# Altium integrated library Analog Devices RF IF Integrated Transceivers, Transmitters and Receivers.IntLib: 9 symbols
Pins are listed as number, name and electrical type; pins without a type are passive.

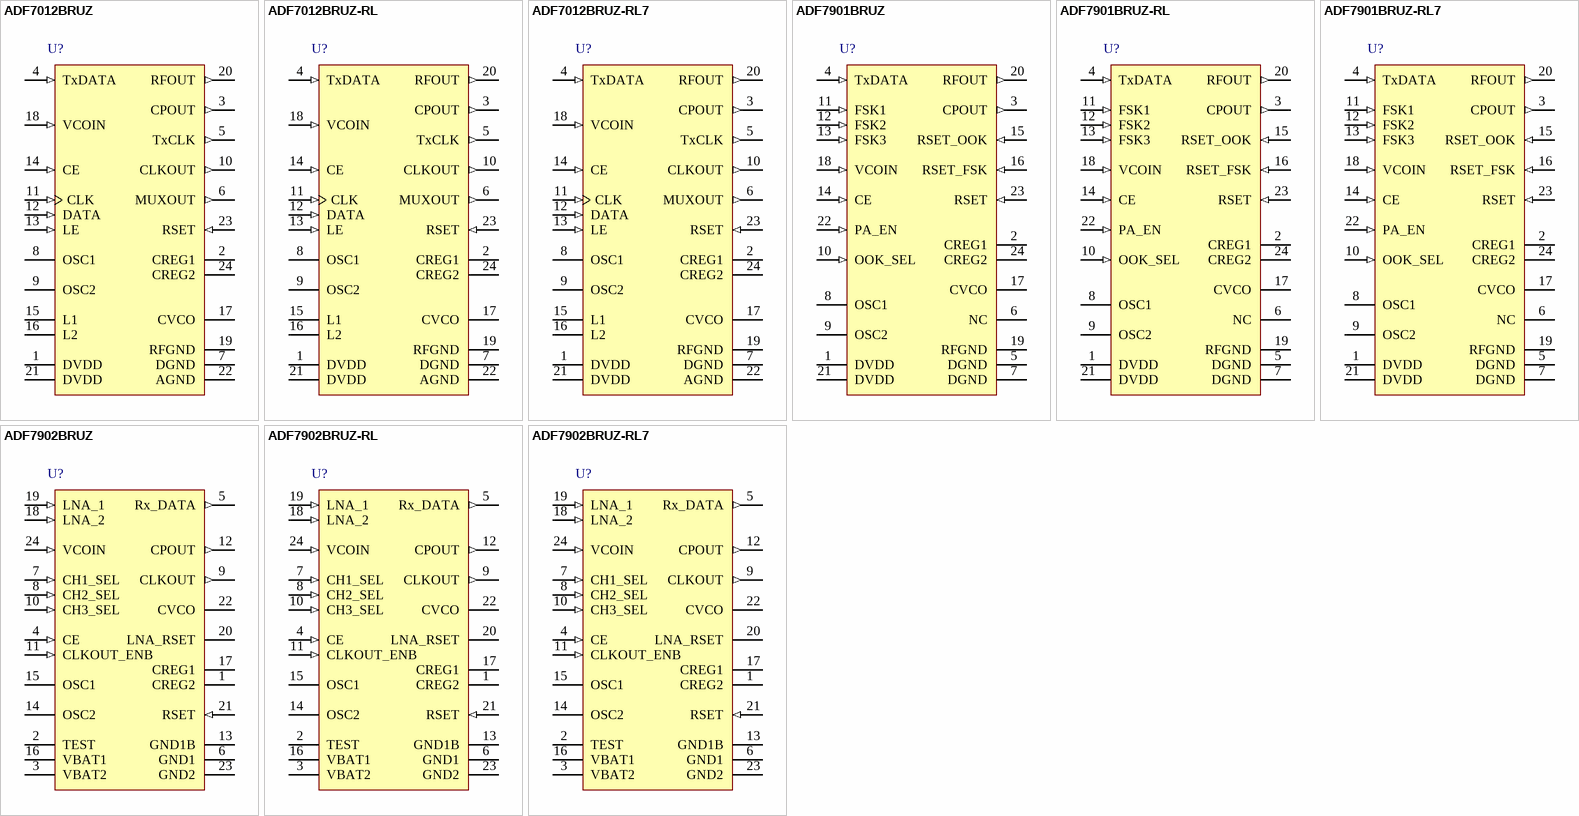
[diagram p0: symbols ADF7012BRUZ to ADF7902BRUZ-RL7]

## ADF7012BRUZ
designator U?
Multichannel ISM Band FSK/GFSK/OOK/GOOK/ASK Transmitter, 75-1000 MHz Output Frequency, 179.2Kbps Maximum Data Rate, RU-24, Pb-Free, 62 Tube; Modulation Mode: FSK/ASK/GFSK, GOOK, OOK; Voltage Supply (V): 3.6V; Output Power: 14 dBm; Phase Noise Floor (dBc/Hz: 194dBc/Hz; Tx Current for 0 dBm (mA): 16mA; DatasheetVersion: RevA; PackageVersion: 2002; PackageReference: RU-24; PackageDescription: 24-Lead Thin Shrink Small Outline Package [TSSOP]; Output Frequency Range: 75-1000 MHz; Maximum Data Rate (kbps): 179.2Kbps; Code_JEDEC: MO-153AD; ComponentLink1Description: Manufacturer URL; ComponentLink1URL: www.analog.com; ComponentLink2Description: Datasheet; ComponentLink2URL: http://www.analog.com/static/imported-files/data_sheets/ADF7012.pdf; ComponentLink3Description: Package Specification; ComponentLink3URL: http://www.analog.com/static/imported-files/packages/380523655245964505593671154107510036154RU24.pdf
footprint ADI-RU-24_N (TSOP, 24-Leads, Body 7.8x4.4mm, Pitch 0.65mm, IPC Medium Density)
footprint ADI-RU-24_L (TSOP, 24-Leads, Body 7.8x4.4mm, Pitch 0.65mm, IPC High Density)
footprint ADI-RU-24_M (TSOP, 24-Leads, Body 7.8x4.4mm, Pitch 0.65mm, IPC Low Density)
pins: 1 DVDD (power) "Positive Supply for the Digital Circuitry. This must be between 2.3 V and 3.6 V. Decoupling capacitors to the analog ground plane should be placed as close as possible to this pin.", 2 CREG1 "A 1 uF capacitor should be added at CREG to reduce regulator noise and improve stability. A reduced capacitor improves regulator power-on time, but may cause higher spurious noise.", 3 CPOUT (out) "Charge Pump Output. This output generates current pulses that are integrated in the loop filter. The integrated current changes the control voltage on the input to the VCO.", 4 TxDATA (in) "Digital data to be transmitted is input on this pin.", 5 TxCLK (out) "GFSK and GOOK Only. This clock output is used to synchronize microcontroller data to the TxDATA pin of the ADF7012. The clock is provided at the same frequency as the data rate. [see datasheet]", 6 MUXOUT (out) "Provides the Lock_Detect Signal. This signal is used to determine if the PLL is locked to the correct frequency. [see datasheet]", 7 DGND (power) "Ground for Digital Section.", 8 OSC1 "The reference crystal should be connected between this pin and OSC2.", 9 OSC2 "The reference crystal should be connected between this pin and OSC1. A TCXO reference may be used, by driving this pin with CMOS levels, and powering down the crystal oscillator bit in software.", 10 CLKOUT (out) "A divided-down version of the crystal reference with output driver. The digital clock output may be used to drive several other CMOS inputs, such as a microcontroller clock. [see datasheet]", 11 CLK (in) "Serial Clock Input. This serial clock is used to clock in the serial data to the registers. The data is latched into the 32-bit shift register on the CLK rising edge. [see datasheet]", 12 DATA (in) "Serial Data Input. The serial data is loaded MSB first with the two LSBs being the control bits. This is a high impedance CMOS input.", 13 LE (in) "Load Enable, CMOS Input. When LE goes high, the data stored in the shift registers is loaded into one of the four latches, the latch being selected using the control bits.", 14 CE (in) "Chip Enable. Bringing CE low puts the ADF7012 into complete power-down, drawing < 1uA. Register values are lost when CE is low and the part must be reprogrammed once CE is brought high.", 15 L1 "Connected to external printed or discrete inductor. See Choosing the External Inductor Value for advice on the value of the inductor to be connected between L1 and L2.", 16 L2 "Connected to external printed or discrete inductor.", 17 CVCO "A 22 nF capacitor should be tied between the CVCO and CREG2 pins. This line should run underneath the ADF7012. This capacitor is necessary to ensure stable VCO operation.", 18 VCOIN (in) "The tuning voltage on this pin determines the output frequency of the voltage controlled oscillator (VCO). The higher the tuning voltage, the higher the output frequency.", 19 RFGND (power) "Ground for Output Stage of Transmitter.", 20 RFOUT (out) "The modulated signal is available at this pin. Output power levels are from -16 dBm to +12 dBm. The output should be impedance matched using suitable components to the desired load. [see datasheet]", 21 DVDD (power) "Voltage supply for VCO and PA section. This should have the same supply as DVDD (Pin 1), and should be between 2.3 V and 3.6 V. [see datasheet]", 22 AGND (power) "Ground Pin for the RF Analog Circuitry.", 23 RSET (in) "External Resistor to set charge pump current and some internal bias currents. Use 3.6 k ohm as default.", 24 CREG2 "Add a 470 nF capacitor at CREG to reduce regulator noise and improve stability. A reduced capacitor improves regulator power-on time and phase noise, but may have stability issues over the supply and temperature."

## ADF7012BRUZ-RL
designator U?
Multichannel ISM Band FSK/GFSK/OOK/GOOK/ASK Transmitter, 75-1000 MHz Output Frequency, 179.2Kbps Maximum Data Rate, RU-24, Pb-Free, 2500 Reel; Modulation Mode: FSK/ASK/GFSK, GOOK, OOK; Voltage Supply (V): 3.6V; Output Power: 14 dBm; Phase Noise Floor (dBc/Hz: 194dBc/Hz; Tx Current for 0 dBm (mA): 16mA; DatasheetVersion: RevA; PackageVersion: 2002; PackageReference: RU-24; PackageDescription: 24-Lead Thin Shrink Small Outline Package [TSSOP]; Output Frequency Range: 75-1000 MHz; Maximum Data Rate (kbps): 179.2Kbps; Code_JEDEC: MO-153AD; ComponentLink1Description: Manufacturer URL; ComponentLink1URL: www.analog.com; ComponentLink2Description: Datasheet; ComponentLink2URL: http://www.analog.com/static/imported-files/data_sheets/ADF7012.pdf; ComponentLink3Description: Package Specification; ComponentLink3URL: http://www.analog.com/static/imported-files/packages/380523655245964505593671154107510036154RU24.pdf
footprint ADI-RU-24_N (TSOP, 24-Leads, Body 7.8x4.4mm, Pitch 0.65mm, IPC Medium Density)
footprint ADI-RU-24_L (TSOP, 24-Leads, Body 7.8x4.4mm, Pitch 0.65mm, IPC High Density)
footprint ADI-RU-24_M (TSOP, 24-Leads, Body 7.8x4.4mm, Pitch 0.65mm, IPC Low Density)
pins: 1 DVDD (power) "Positive Supply for the Digital Circuitry. This must be between 2.3 V and 3.6 V. Decoupling capacitors to the analog ground plane should be placed as close as possible to this pin.", 2 CREG1 "A 1 uF capacitor should be added at CREG to reduce regulator noise and improve stability. A reduced capacitor improves regulator power-on time, but may cause higher spurious noise.", 3 CPOUT (out) "Charge Pump Output. This output generates current pulses that are integrated in the loop filter. The integrated current changes the control voltage on the input to the VCO.", 4 TxDATA (in) "Digital data to be transmitted is input on this pin.", 5 TxCLK (out) "GFSK and GOOK Only. This clock output is used to synchronize microcontroller data to the TxDATA pin of the ADF7012. The clock is provided at the same frequency as the data rate. [see datasheet]", 6 MUXOUT (out) "Provides the Lock_Detect Signal. This signal is used to determine if the PLL is locked to the correct frequency. [see datasheet]", 7 DGND (power) "Ground for Digital Section.", 8 OSC1 "The reference crystal should be connected between this pin and OSC2.", 9 OSC2 "The reference crystal should be connected between this pin and OSC1. A TCXO reference may be used, by driving this pin with CMOS levels, and powering down the crystal oscillator bit in software.", 10 CLKOUT (out) "A divided-down version of the crystal reference with output driver. The digital clock output may be used to drive several other CMOS inputs, such as a microcontroller clock. [see datasheet]", 11 CLK (in) "Serial Clock Input. This serial clock is used to clock in the serial data to the registers. The data is latched into the 32-bit shift register on the CLK rising edge. [see datasheet]", 12 DATA (in) "Serial Data Input. The serial data is loaded MSB first with the two LSBs being the control bits. This is a high impedance CMOS input.", 13 LE (in) "Load Enable, CMOS Input. When LE goes high, the data stored in the shift registers is loaded into one of the four latches, the latch being selected using the control bits.", 14 CE (in) "Chip Enable. Bringing CE low puts the ADF7012 into complete power-down, drawing < 1uA. Register values are lost when CE is low and the part must be reprogrammed once CE is brought high.", 15 L1 "Connected to external printed or discrete inductor. See Choosing the External Inductor Value for advice on the value of the inductor to be connected between L1 and L2.", 16 L2 "Connected to external printed or discrete inductor.", 17 CVCO "A 22 nF capacitor should be tied between the CVCO and CREG2 pins. This line should run underneath the ADF7012. This capacitor is necessary to ensure stable VCO operation.", 18 VCOIN (in) "The tuning voltage on this pin determines the output frequency of the voltage controlled oscillator (VCO). The higher the tuning voltage, the higher the output frequency.", 19 RFGND (power) "Ground for Output Stage of Transmitter.", 20 RFOUT (out) "The modulated signal is available at this pin. Output power levels are from -16 dBm to +12 dBm. The output should be impedance matched using suitable components to the desired load. [see datasheet]", 21 DVDD (power) "Voltage supply for VCO and PA section. This should have the same supply as DVDD (Pin 1), and should be between 2.3 V and 3.6 V. [see datasheet]", 22 AGND (power) "Ground Pin for the RF Analog Circuitry.", 23 RSET (in) "External Resistor to set charge pump current and some internal bias currents. Use 3.6 k ohm as default.", 24 CREG2 "Add a 470 nF capacitor at CREG to reduce regulator noise and improve stability. A reduced capacitor improves regulator power-on time and phase noise, but may have stability issues over the supply and temperature."

## ADF7012BRUZ-RL7
designator U?
Multichannel ISM Band FSK/GFSK/OOK/GOOK/ASK Transmitter, 75-1000 MHz Output Frequency, 179.2Kbps Maximum Data Rate, RU-24, Pb-Free, 1000 Reel; Modulation Mode: FSK/ASK/GFSK, GOOK, OOK; Voltage Supply (V): 3.6V; Output Power: 14 dBm; Phase Noise Floor (dBc/Hz: 194dBc/Hz; Tx Current for 0 dBm (mA): 16mA; DatasheetVersion: RevA; PackageVersion: 2002; PackageReference: RU-24; PackageDescription: 24-Lead Thin Shrink Small Outline Package [TSSOP]; Output Frequency Range: 75-1000 MHz; Maximum Data Rate (kbps): 179.2Kbps; Code_JEDEC: MO-153AD; ComponentLink1Description: Manufacturer URL; ComponentLink1URL: www.analog.com; ComponentLink2Description: Datasheet; ComponentLink2URL: http://www.analog.com/static/imported-files/data_sheets/ADF7012.pdf; ComponentLink3Description: Package Specification; ComponentLink3URL: http://www.analog.com/static/imported-files/packages/380523655245964505593671154107510036154RU24.pdf
footprint ADI-RU-24_N (TSOP, 24-Leads, Body 7.8x4.4mm, Pitch 0.65mm, IPC Medium Density)
footprint ADI-RU-24_L (TSOP, 24-Leads, Body 7.8x4.4mm, Pitch 0.65mm, IPC High Density)
footprint ADI-RU-24_M (TSOP, 24-Leads, Body 7.8x4.4mm, Pitch 0.65mm, IPC Low Density)
pins: 1 DVDD (power) "Positive Supply for the Digital Circuitry. This must be between 2.3 V and 3.6 V. Decoupling capacitors to the analog ground plane should be placed as close as possible to this pin.", 2 CREG1 "A 1 uF capacitor should be added at CREG to reduce regulator noise and improve stability. A reduced capacitor improves regulator power-on time, but may cause higher spurious noise.", 3 CPOUT (out) "Charge Pump Output. This output generates current pulses that are integrated in the loop filter. The integrated current changes the control voltage on the input to the VCO.", 4 TxDATA (in) "Digital data to be transmitted is input on this pin.", 5 TxCLK (out) "GFSK and GOOK Only. This clock output is used to synchronize microcontroller data to the TxDATA pin of the ADF7012. The clock is provided at the same frequency as the data rate. [see datasheet]", 6 MUXOUT (out) "Provides the Lock_Detect Signal. This signal is used to determine if the PLL is locked to the correct frequency. [see datasheet]", 7 DGND (power) "Ground for Digital Section.", 8 OSC1 "The reference crystal should be connected between this pin and OSC2.", 9 OSC2 "The reference crystal should be connected between this pin and OSC1. A TCXO reference may be used, by driving this pin with CMOS levels, and powering down the crystal oscillator bit in software.", 10 CLKOUT (out) "A divided-down version of the crystal reference with output driver. The digital clock output may be used to drive several other CMOS inputs, such as a microcontroller clock. [see datasheet]", 11 CLK (in) "Serial Clock Input. This serial clock is used to clock in the serial data to the registers. The data is latched into the 32-bit shift register on the CLK rising edge. [see datasheet]", 12 DATA (in) "Serial Data Input. The serial data is loaded MSB first with the two LSBs being the control bits. This is a high impedance CMOS input.", 13 LE (in) "Load Enable, CMOS Input. When LE goes high, the data stored in the shift registers is loaded into one of the four latches, the latch being selected using the control bits.", 14 CE (in) "Chip Enable. Bringing CE low puts the ADF7012 into complete power-down, drawing < 1uA. Register values are lost when CE is low and the part must be reprogrammed once CE is brought high.", 15 L1 "Connected to external printed or discrete inductor. See Choosing the External Inductor Value for advice on the value of the inductor to be connected between L1 and L2.", 16 L2 "Connected to external printed or discrete inductor.", 17 CVCO "A 22 nF capacitor should be tied between the CVCO and CREG2 pins. This line should run underneath the ADF7012. This capacitor is necessary to ensure stable VCO operation.", 18 VCOIN (in) "The tuning voltage on this pin determines the output frequency of the voltage controlled oscillator (VCO). The higher the tuning voltage, the higher the output frequency.", 19 RFGND (power) "Ground for Output Stage of Transmitter.", 20 RFOUT (out) "The modulated signal is available at this pin. Output power levels are from -16 dBm to +12 dBm. The output should be impedance matched using suitable components to the desired load. [see datasheet]", 21 DVDD (power) "Voltage supply for VCO and PA section. This should have the same supply as DVDD (Pin 1), and should be between 2.3 V and 3.6 V. [see datasheet]", 22 AGND (power) "Ground Pin for the RF Analog Circuitry.", 23 RSET (in) "External Resistor to set charge pump current and some internal bias currents. Use 3.6 k ohm as default.", 24 CREG2 "Add a 470 nF capacitor at CREG to reduce regulator noise and improve stability. A reduced capacitor improves regulator power-on time and phase noise, but may have stability issues over the supply and temperature."

## ADF7901BRUZ
designator U?
High Performance ISM Band OOK/FSK Transmitter IC, 369.5MHz-395.9MHz Output Frequency, 50Kbps Maximum Data Rate, RU-24, Pb-Free, 62 Tube; Modulation Mode: FSK, OOK; Voltage Supply (V): 3V; Output Power: 14 dBm; Phase Noise Floor (dBc/Hz: 194dBc/Hz; Tx Current for 0 dBm (mA): 17mA; DatasheetVersion: RevA; PackageVersion: 2002; PackageReference: RU-24; PackageDescription: 24-Lead Thin Shrink Small Outline Package [TSSOP]; Output Frequency Range: 369.5MHz-395.9MHz; Maximum Data Rate (kbps): 50Kbps; Code_JEDEC: MO-153AD; ComponentLink1Description: Manufacturer URL; ComponentLink1URL: www.analog.com; ComponentLink2Description: Datasheet; ComponentLink2URL: http://www.analog.com/static/imported-files/data_sheets/ADF7901.pdf; ComponentLink3Description: Package Specification; ComponentLink3URL: http://www.analog.com/static/imported-files/packages/380523655245964505593671154107510036154RU24.pdf
footprint ADI-RU-24_N (TSOP, 24-Leads, Body 7.8x4.4mm, Pitch 0.65mm, IPC Medium Density)
footprint ADI-RU-24_L (TSOP, 24-Leads, Body 7.8x4.4mm, Pitch 0.65mm, IPC High Density)
footprint ADI-RU-24_M (TSOP, 24-Leads, Body 7.8x4.4mm, Pitch 0.65mm, IPC Low Density)
pins: 1 DVDD (power) "Positive Supply for the Digital Circuitry. This must be 3.0 V. Decoupling capacitors to the analog ground plane should be placed as close as possible to this pin.", 2 CREG1 "A 2.2 uF capacitor should be added at CREG1 to reduce regulator noise and improve stability. A reduced capacitor improves regulator power-on time but can cause higher spurious.", 3 CPOUT (out) "Charge Pump Output. This output generates current pulses that are integrated in the loop filter. The integrated current changes the control voltage on the input to the VCO.", 4 TxDATA (in) "Digital FSK data to be transmitted is inputted on this pin.", 5 DGND (power) "Ground for Digital Section.", 6 NC "No Connect.", 7 DGND (power) "Ground for Digital Section.", 8 OSC1 "Digital FSK data to be transmitted is inputted on this pin. Ground for Digital Section. No Connect. Ground for Digital Section.", 9 OSC2 "The reference crystal should be connected between this pin and the OSC1 pin. The necessary crystal load capacitor should be tied between this pin and ground. [see datasheet]", 10 OOK_SEL (in) "A high on this pin selects operation in OOK mode at 384 MHz when CE is high.", 11 FSK1 (in) "FSK Channel Select Pin. This represents the LSB of the channel select pins.", 12 FSK2 (in) "FSK Channel Select Pin.", 13 FSK3 (in) "FSK Channel Select Pin.", 14 CE (in) "Bringing CE low puts the ADF7901 into power-down, drawing <1 uA of current.", 15 RSET_OOK (in) "The value of this resistor sets the output power for data = 1 in OOK mode. A resistor of 3.6 k ohm provides the maximum output power. [see datasheet]", 16 RSET_FSK (in) "The value of this resistor sets the output power in FSK mode. A resistor of 3.6 k ohm provides maximum output power. Increasing the resistor reduces the power and the current consumption. [see datasheet]", 17 CVCO "A 22 nF capacitor should be tied between the CVCO and CREG2 pins. This line should run underneath the ADF7901. The capacitor is necessary to ensure stable VCO operation.", 18 VCOIN (in) "The tuning voltage on this pin determines the output frequency of the voltage controlled oscillator (VCO). The higher the tuning voltage the higher the output frequency. [see datasheet]", 19 RFGND (power) "Ground for Output Stage of Transmitter.", 20 RFOUT (out) "The modulated signal is available at this pin. Output power levels are from -5 dBm to +12 dBm. The output should be impedance matched using suitable components to the desired load.", 21 DVDD (power) "Voltage Supply for VCO and PA Section. It should be supplied with 3.0 V. Decoupling capacitors to the ground plane should be placed as close as possible to this pin.", 22 PA_EN (in) "This pin is used to enable the power amplifier. It should be modulated with the OOK data in OOK mode. In FSK mode, it should be enabled when the PLL is locked.", 23 RSET (in) "External Resistor. Sets charge pump current and some internal bias currents. Use 3.6 k ohm as default.", 24 CREG2 "A 2.2 uF capacitor should be added at CREG2 to reduce regulator noise and improve stability. A reduced capacitor improves regulator power-on time but can cause higher spurs."

## ADF7901BRUZ-RL
designator U?
High Performance ISM Band OOK/FSK Transmitter IC, 369.5MHz-395.9MHz Output Frequency, 50Kbps Maximum Data Rate, RU-24, Pb-Free, 2500 Reel; Modulation Mode: FSK, OOK; Voltage Supply (V): 3V; Output Power: 14 dBm; Phase Noise Floor (dBc/Hz: 194dBc/Hz; Tx Current for 0 dBm (mA): 17mA; DatasheetVersion: RevA; PackageVersion: 2002; PackageReference: RU-24; PackageDescription: 24-Lead Thin Shrink Small Outline Package [TSSOP]; Output Frequency Range: 369.5MHz-395.9MHz; Maximum Data Rate (kbps): 50Kbps; Code_JEDEC: MO-153AD; ComponentLink1Description: Manufacturer URL; ComponentLink1URL: www.analog.com; ComponentLink2Description: Datasheet; ComponentLink2URL: http://www.analog.com/static/imported-files/data_sheets/ADF7901.pdf; ComponentLink3Description: Package Specification; ComponentLink3URL: http://www.analog.com/static/imported-files/packages/380523655245964505593671154107510036154RU24.pdf
footprint ADI-RU-24_N (TSOP, 24-Leads, Body 7.8x4.4mm, Pitch 0.65mm, IPC Medium Density)
footprint ADI-RU-24_L (TSOP, 24-Leads, Body 7.8x4.4mm, Pitch 0.65mm, IPC High Density)
footprint ADI-RU-24_M (TSOP, 24-Leads, Body 7.8x4.4mm, Pitch 0.65mm, IPC Low Density)
pins: 1 DVDD (power) "Positive Supply for the Digital Circuitry. This must be 3.0 V. Decoupling capacitors to the analog ground plane should be placed as close as possible to this pin.", 2 CREG1 "A 2.2 uF capacitor should be added at CREG1 to reduce regulator noise and improve stability. A reduced capacitor improves regulator power-on time but can cause higher spurious.", 3 CPOUT (out) "Charge Pump Output. This output generates current pulses that are integrated in the loop filter. The integrated current changes the control voltage on the input to the VCO.", 4 TxDATA (in) "Digital FSK data to be transmitted is inputted on this pin.", 5 DGND (power) "Ground for Digital Section.", 6 NC "No Connect.", 7 DGND (power) "Ground for Digital Section.", 8 OSC1 "Digital FSK data to be transmitted is inputted on this pin. Ground for Digital Section. No Connect. Ground for Digital Section.", 9 OSC2 "The reference crystal should be connected between this pin and the OSC1 pin. The necessary crystal load capacitor should be tied between this pin and ground. [see datasheet]", 10 OOK_SEL (in) "A high on this pin selects operation in OOK mode at 384 MHz when CE is high.", 11 FSK1 (in) "FSK Channel Select Pin. This represents the LSB of the channel select pins.", 12 FSK2 (in) "FSK Channel Select Pin.", 13 FSK3 (in) "FSK Channel Select Pin.", 14 CE (in) "Bringing CE low puts the ADF7901 into power-down, drawing <1 uA of current.", 15 RSET_OOK (in) "The value of this resistor sets the output power for data = 1 in OOK mode. A resistor of 3.6 k ohm provides the maximum output power. [see datasheet]", 16 RSET_FSK (in) "The value of this resistor sets the output power in FSK mode. A resistor of 3.6 k ohm provides maximum output power. Increasing the resistor reduces the power and the current consumption. [see datasheet]", 17 CVCO "A 22 nF capacitor should be tied between the CVCO and CREG2 pins. This line should run underneath the ADF7901. The capacitor is necessary to ensure stable VCO operation.", 18 VCOIN (in) "The tuning voltage on this pin determines the output frequency of the voltage controlled oscillator (VCO). The higher the tuning voltage the higher the output frequency. [see datasheet]", 19 RFGND (power) "Ground for Output Stage of Transmitter.", 20 RFOUT (out) "The modulated signal is available at this pin. Output power levels are from -5 dBm to +12 dBm. The output should be impedance matched using suitable components to the desired load.", 21 DVDD (power) "Voltage Supply for VCO and PA Section. It should be supplied with 3.0 V. Decoupling capacitors to the ground plane should be placed as close as possible to this pin.", 22 PA_EN (in) "This pin is used to enable the power amplifier. It should be modulated with the OOK data in OOK mode. In FSK mode, it should be enabled when the PLL is locked.", 23 RSET (in) "External Resistor. Sets charge pump current and some internal bias currents. Use 3.6 k ohm as default.", 24 CREG2 "A 2.2 uF capacitor should be added at CREG2 to reduce regulator noise and improve stability. A reduced capacitor improves regulator power-on time but can cause higher spurs."

## ADF7901BRUZ-RL7
designator U?
High Performance ISM Band OOK/FSK Transmitter IC, 369.5MHz-395.9MHz Output Frequency, 50Kbps Maximum Data Rate, RU-24, Pb-Free, 1000 Reel; Modulation Mode: FSK, OOK; Voltage Supply (V): 3V; Output Power: 14 dBm; Phase Noise Floor (dBc/Hz: 194dBc/Hz; Tx Current for 0 dBm (mA): 17mA; DatasheetVersion: RevA; PackageVersion: 2002; PackageReference: RU-24; PackageDescription: 24-Lead Thin Shrink Small Outline Package [TSSOP]; Output Frequency Range: 369.5MHz-395.9MHz; Maximum Data Rate (kbps): 50Kbps; Code_JEDEC: MO-153AD; ComponentLink1Description: Manufacturer URL; ComponentLink1URL: www.analog.com; ComponentLink2Description: Datasheet; ComponentLink2URL: http://www.analog.com/static/imported-files/data_sheets/ADF7901.pdf; ComponentLink3Description: Package Specification; ComponentLink3URL: http://www.analog.com/static/imported-files/packages/380523655245964505593671154107510036154RU24.pdf
footprint ADI-RU-24_N (TSOP, 24-Leads, Body 7.8x4.4mm, Pitch 0.65mm, IPC Medium Density)
footprint ADI-RU-24_L (TSOP, 24-Leads, Body 7.8x4.4mm, Pitch 0.65mm, IPC High Density)
footprint ADI-RU-24_M (TSOP, 24-Leads, Body 7.8x4.4mm, Pitch 0.65mm, IPC Low Density)
pins: 1 DVDD (power) "Positive Supply for the Digital Circuitry. This must be 3.0 V. Decoupling capacitors to the analog ground plane should be placed as close as possible to this pin.", 2 CREG1 "A 2.2 uF capacitor should be added at CREG1 to reduce regulator noise and improve stability. A reduced capacitor improves regulator power-on time but can cause higher spurious.", 3 CPOUT (out) "Charge Pump Output. This output generates current pulses that are integrated in the loop filter. The integrated current changes the control voltage on the input to the VCO.", 4 TxDATA (in) "Digital FSK data to be transmitted is inputted on this pin.", 5 DGND (power) "Ground for Digital Section.", 6 NC "No Connect.", 7 DGND (power) "Ground for Digital Section.", 8 OSC1 "Digital FSK data to be transmitted is inputted on this pin. Ground for Digital Section. No Connect. Ground for Digital Section.", 9 OSC2 "The reference crystal should be connected between this pin and the OSC1 pin. The necessary crystal load capacitor should be tied between this pin and ground. [see datasheet]", 10 OOK_SEL (in) "A high on this pin selects operation in OOK mode at 384 MHz when CE is high.", 11 FSK1 (in) "FSK Channel Select Pin. This represents the LSB of the channel select pins.", 12 FSK2 (in) "FSK Channel Select Pin.", 13 FSK3 (in) "FSK Channel Select Pin.", 14 CE (in) "Bringing CE low puts the ADF7901 into power-down, drawing <1 uA of current.", 15 RSET_OOK (in) "The value of this resistor sets the output power for data = 1 in OOK mode. A resistor of 3.6 k ohm provides the maximum output power. [see datasheet]", 16 RSET_FSK (in) "The value of this resistor sets the output power in FSK mode. A resistor of 3.6 k ohm provides maximum output power. Increasing the resistor reduces the power and the current consumption. [see datasheet]", 17 CVCO "A 22 nF capacitor should be tied between the CVCO and CREG2 pins. This line should run underneath the ADF7901. The capacitor is necessary to ensure stable VCO operation.", 18 VCOIN (in) "The tuning voltage on this pin determines the output frequency of the voltage controlled oscillator (VCO). The higher the tuning voltage the higher the output frequency. [see datasheet]", 19 RFGND (power) "Ground for Output Stage of Transmitter.", 20 RFOUT (out) "The modulated signal is available at this pin. Output power levels are from -5 dBm to +12 dBm. The output should be impedance matched using suitable components to the desired load.", 21 DVDD (power) "Voltage Supply for VCO and PA Section. It should be supplied with 3.0 V. Decoupling capacitors to the ground plane should be placed as close as possible to this pin.", 22 PA_EN (in) "This pin is used to enable the power amplifier. It should be modulated with the OOK data in OOK mode. In FSK mode, it should be enabled when the PLL is locked.", 23 RSET (in) "External Resistor. Sets charge pump current and some internal bias currents. Use 3.6 k ohm as default.", 24 CREG2 "A 2.2 uF capacitor should be added at CREG2 to reduce regulator noise and improve stability. A reduced capacitor improves regulator power-on time but can cause higher spurs."

## ADF7902BRUZ
designator U?
ISM Band FSK Receiver IC, 369.5MHz-395.9MHz Output Frequency, 2Kbps Maximum Data Rate, RU-24, Pb-Free, 62 Tube; Voltage Supply (V): 5V; Phase Noise Floor (dBc/Hz: 194dBc/Hz; Rx Current (mA): 18.5mA; DatasheetVersion: Rev0; PackageVersion: 2002; PackageReference: RU-24; PackageDescription: 24-Lead Thin Shrink Small Outline Package [TSSOP]; Output Frequency Range: 369.5MHz-395.9MHz; Modulation Mode: FSK; Maximum Data Rate (kbps): 2Kbps; Code_JEDEC: MO-153AD; ComponentLink1Description: Manufacturer URL; ComponentLink1URL: www.analog.com; ComponentLink2Description: Datasheet; ComponentLink2URL: http://www.analog.com/static/imported-files/data_sheets/ADF7902.pdf; ComponentLink3Description: Package Specification; ComponentLink3URL: http://www.analog.com/static/imported-files/packages/380523655245964505593671154107510036154RU24.pdf
footprint ADI-RU-24_N (TSOP, 24-Leads, Body 7.8x4.4mm, Pitch 0.65mm, IPC Medium Density)
footprint ADI-RU-24_L (TSOP, 24-Leads, Body 7.8x4.4mm, Pitch 0.65mm, IPC High Density)
footprint ADI-RU-24_M (TSOP, 24-Leads, Body 7.8x4.4mm, Pitch 0.65mm, IPC Low Density)
pins: 1 CREG2 "A 0.1 uF capacitor should be added at CREG2 to reduce regulator noise and improve stability. A reduced capacitor improves regulator power-on time but may cause higher spurs.", 2 TEST "Test Output Pin. Leave as no connect.", 3 VBAT2 (power) "5 V Power Supply for RF Circuitry. Decoupling capacitors to the analog ground plane should be placed as close as possible to this pin.", 4 CE (in) "Chip Enable Input. Driving CE low puts the part into power-down mode, drawing <1 uA.", 5 Rx_DATA (out) "Receiver Output. Demodulated data appears on this pin.", 6 GND1 (power) "Ground for Digital Circuitry.", 7 CH1_SEL (in) "Channel Select Pin. This represents the LSB of the channel select pins.", 8 CH2_SEL (in) "Channel Select Pin.", 9 CLKOUT (out) "Square Wave Clock Output at the Crystal Frequency. This can be used to drive the OSC2 pin of a partnering ADF7902. The output has a 50:50 mark-space ratio and switches between 0 V and 2.2 V. [see datasheet]", 10 CH3_SEL (in) "Channel Select Pin.", 11 CLKOUT_ENB (in) "CLKOUT Enable Input. This should be driven low to enable the reference clock signal to appear on the CLKOUT pin. Driving the pin high removes the clock signal on CLKOUT. [see datasheet]", 12 CPOUT (out) "Charge Pump Output. This output generates current pulses that are integrated in the loop filter. The integrated current changes the control voltage on the input to the VCO.", 13 GND1B (power) "Ground for Digital Circuitry.", 14 OSC2 "The reference crystal should be connected between this pin and OSC1. The necessary crystal load capacitor should be tied between this pin and ground. [see datasheet]", 15 OSC1 "The reference crystal should be connected between this pin and OSC2. The necessary crystal load capacitor should be tied between this pin and ground. [see datasheet]", 16 VBAT1 (power) "5 V Power Supply for Digital Circuitry. Decoupling capacitors to the analog ground plane should be placed as close as possible to this pin.", 17 CREG1 "A 0.1 uF capacitor should be added at CREG1 to reduce regulator noise and improve stability. A reduced capacitor improves regulator power-on time but may cause higher spurs.", 18 LNA_2 (in) "LNA Input. Input matching is required between the antenna and the differential LNA input to ensure maximum power transfer.", 19 LNA_1 (in) "Complementary LNA Input.", 20 LNA_RSET "External Bias Resistor for LNA. A value of 1.1 k ohm is recommended.", 21 RSET (in) "External Resistor to Set Charge Pump Current and Some Internal Bias Currents. A value of 3.6 k ohm is recommended.", 22 CVCO "Voltage Controlled Oscillator (VCO) Capacitor. A 22 nF capacitor should be placed between this pin and CREG2 to reduce VCO noise.", 23 GND2 (power) "Ground for RF Circuitry.", 24 VCOIN (in) "The tuning voltage on this pin determines the output frequency of the VCO. The higher the tuning voltage, the higher the output frequency. The output of the loop filter is connected here."

## ADF7902BRUZ-RL
designator U?
ISM Band FSK Receiver IC, 369.5MHz-395.9MHz Output Frequency, 2Kbps Maximum Data Rate, RU-24, Pb-Free, 2500 Reel; Voltage Supply (V): 5V; Phase Noise Floor (dBc/Hz: 194dBc/Hz; Rx Current (mA): 18.5mA; DatasheetVersion: Rev0; PackageVersion: 2002; PackageReference: RU-24; PackageDescription: 24-Lead Thin Shrink Small Outline Package [TSSOP]; Output Frequency Range: 369.5MHz-395.9MHz; Modulation Mode: FSK; Maximum Data Rate (kbps): 2Kbps; Code_JEDEC: MO-153AD; ComponentLink1Description: Manufacturer URL; ComponentLink1URL: www.analog.com; ComponentLink2Description: Datasheet; ComponentLink2URL: http://www.analog.com/static/imported-files/data_sheets/ADF7902.pdf; ComponentLink3Description: Package Specification; ComponentLink3URL: http://www.analog.com/static/imported-files/packages/380523655245964505593671154107510036154RU24.pdf
footprint ADI-RU-24_N (TSOP, 24-Leads, Body 7.8x4.4mm, Pitch 0.65mm, IPC Medium Density)
footprint ADI-RU-24_L (TSOP, 24-Leads, Body 7.8x4.4mm, Pitch 0.65mm, IPC High Density)
footprint ADI-RU-24_M (TSOP, 24-Leads, Body 7.8x4.4mm, Pitch 0.65mm, IPC Low Density)
pins: 1 CREG2 "A 0.1 uF capacitor should be added at CREG2 to reduce regulator noise and improve stability. A reduced capacitor improves regulator power-on time but may cause higher spurs.", 2 TEST "Test Output Pin. Leave as no connect.", 3 VBAT2 (power) "5 V Power Supply for RF Circuitry. Decoupling capacitors to the analog ground plane should be placed as close as possible to this pin.", 4 CE (in) "Chip Enable Input. Driving CE low puts the part into power-down mode, drawing <1 uA.", 5 Rx_DATA (out) "Receiver Output. Demodulated data appears on this pin.", 6 GND1 (power) "Ground for Digital Circuitry.", 7 CH1_SEL (in) "Channel Select Pin. This represents the LSB of the channel select pins.", 8 CH2_SEL (in) "Channel Select Pin.", 9 CLKOUT (out) "Square Wave Clock Output at the Crystal Frequency. This can be used to drive the OSC2 pin of a partnering ADF7902. The output has a 50:50 mark-space ratio and switches between 0 V and 2.2 V. [see datasheet]", 10 CH3_SEL (in) "Channel Select Pin.", 11 CLKOUT_ENB (in) "CLKOUT Enable Input. This should be driven low to enable the reference clock signal to appear on the CLKOUT pin. Driving the pin high removes the clock signal on CLKOUT. [see datasheet]", 12 CPOUT (out) "Charge Pump Output. This output generates current pulses that are integrated in the loop filter. The integrated current changes the control voltage on the input to the VCO.", 13 GND1B (power) "Ground for Digital Circuitry.", 14 OSC2 "The reference crystal should be connected between this pin and OSC1. The necessary crystal load capacitor should be tied between this pin and ground. [see datasheet]", 15 OSC1 "The reference crystal should be connected between this pin and OSC2. The necessary crystal load capacitor should be tied between this pin and ground. [see datasheet]", 16 VBAT1 (power) "5 V Power Supply for Digital Circuitry. Decoupling capacitors to the analog ground plane should be placed as close as possible to this pin.", 17 CREG1 "A 0.1 uF capacitor should be added at CREG1 to reduce regulator noise and improve stability. A reduced capacitor improves regulator power-on time but may cause higher spurs.", 18 LNA_2 (in) "LNA Input. Input matching is required between the antenna and the differential LNA input to ensure maximum power transfer.", 19 LNA_1 (in) "Complementary LNA Input.", 20 LNA_RSET "External Bias Resistor for LNA. A value of 1.1 k ohm is recommended.", 21 RSET (in) "External Resistor to Set Charge Pump Current and Some Internal Bias Currents. A value of 3.6 k ohm is recommended.", 22 CVCO "Voltage Controlled Oscillator (VCO) Capacitor. A 22 nF capacitor should be placed between this pin and CREG2 to reduce VCO noise.", 23 GND2 (power) "Ground for RF Circuitry.", 24 VCOIN (in) "The tuning voltage on this pin determines the output frequency of the VCO. The higher the tuning voltage, the higher the output frequency. The output of the loop filter is connected here."

## ADF7902BRUZ-RL7
designator U?
ISM Band FSK Receiver IC, 369.5MHz-395.9MHz Output Frequency, 2Kbps Maximum Data Rate, RU-24, Pb-Free, 1000 Reel; Voltage Supply (V): 5V; Phase Noise Floor (dBc/Hz: 194dBc/Hz; Rx Current (mA): 18.5mA; DatasheetVersion: Rev0; PackageVersion: 2002; PackageReference: RU-24; PackageDescription: 24-Lead Thin Shrink Small Outline Package [TSSOP]; Output Frequency Range: 369.5MHz-395.9MHz; Modulation Mode: FSK; Maximum Data Rate (kbps): 2Kbps; Code_JEDEC: MO-153AD; ComponentLink1Description: Manufacturer URL; ComponentLink1URL: www.analog.com; ComponentLink2Description: Datasheet; ComponentLink2URL: http://www.analog.com/static/imported-files/data_sheets/ADF7902.pdf; ComponentLink3Description: Package Specification; ComponentLink3URL: http://www.analog.com/static/imported-files/packages/380523655245964505593671154107510036154RU24.pdf
footprint ADI-RU-24_N (TSOP, 24-Leads, Body 7.8x4.4mm, Pitch 0.65mm, IPC Medium Density)
footprint ADI-RU-24_L (TSOP, 24-Leads, Body 7.8x4.4mm, Pitch 0.65mm, IPC High Density)
footprint ADI-RU-24_M (TSOP, 24-Leads, Body 7.8x4.4mm, Pitch 0.65mm, IPC Low Density)
pins: 1 CREG2 "A 0.1 uF capacitor should be added at CREG2 to reduce regulator noise and improve stability. A reduced capacitor improves regulator power-on time but may cause higher spurs.", 2 TEST "Test Output Pin. Leave as no connect.", 3 VBAT2 (power) "5 V Power Supply for RF Circuitry. Decoupling capacitors to the analog ground plane should be placed as close as possible to this pin.", 4 CE (in) "Chip Enable Input. Driving CE low puts the part into power-down mode, drawing <1 uA.", 5 Rx_DATA (out) "Receiver Output. Demodulated data appears on this pin.", 6 GND1 (power) "Ground for Digital Circuitry.", 7 CH1_SEL (in) "Channel Select Pin. This represents the LSB of the channel select pins.", 8 CH2_SEL (in) "Channel Select Pin.", 9 CLKOUT (out) "Square Wave Clock Output at the Crystal Frequency. This can be used to drive the OSC2 pin of a partnering ADF7902. The output has a 50:50 mark-space ratio and switches between 0 V and 2.2 V. [see datasheet]", 10 CH3_SEL (in) "Channel Select Pin.", 11 CLKOUT_ENB (in) "CLKOUT Enable Input. This should be driven low to enable the reference clock signal to appear on the CLKOUT pin. Driving the pin high removes the clock signal on CLKOUT. [see datasheet]", 12 CPOUT (out) "Charge Pump Output. This output generates current pulses that are integrated in the loop filter. The integrated current changes the control voltage on the input to the VCO.", 13 GND1B (power) "Ground for Digital Circuitry.", 14 OSC2 "The reference crystal should be connected between this pin and OSC1. The necessary crystal load capacitor should be tied between this pin and ground. [see datasheet]", 15 OSC1 "The reference crystal should be connected between this pin and OSC2. The necessary crystal load capacitor should be tied between this pin and ground. [see datasheet]", 16 VBAT1 (power) "5 V Power Supply for Digital Circuitry. Decoupling capacitors to the analog ground plane should be placed as close as possible to this pin.", 17 CREG1 "A 0.1 uF capacitor should be added at CREG1 to reduce regulator noise and improve stability. A reduced capacitor improves regulator power-on time but may cause higher spurs.", 18 LNA_2 (in) "LNA Input. Input matching is required between the antenna and the differential LNA input to ensure maximum power transfer.", 19 LNA_1 (in) "Complementary LNA Input.", 20 LNA_RSET "External Bias Resistor for LNA. A value of 1.1 k ohm is recommended.", 21 RSET (in) "External Resistor to Set Charge Pump Current and Some Internal Bias Currents. A value of 3.6 k ohm is recommended.", 22 CVCO "Voltage Controlled Oscillator (VCO) Capacitor. A 22 nF capacitor should be placed between this pin and CREG2 to reduce VCO noise.", 23 GND2 (power) "Ground for RF Circuitry.", 24 VCOIN (in) "The tuning voltage on this pin determines the output frequency of the VCO. The higher the tuning voltage, the higher the output frequency. The output of the loop filter is connected here."